# EAGLE library part IO.2 (library supply pins)
I/O Pads Does not include J1 (input) and J2 (output) jack connections
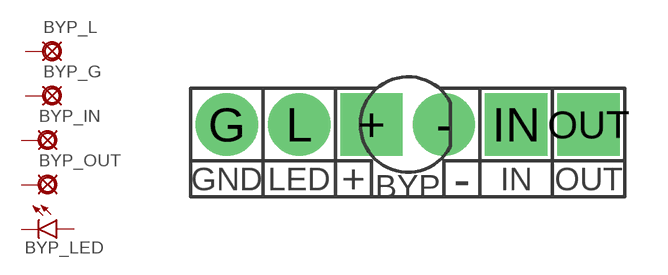
[diagram p1: symbol with the pads of IO.2; footprint IO.2]

Designator prefix BYP_; gates L=PAD G=PAD IN=PAD OUT=PAD LED=LED

## IO.2  [IO.2]
+  LED:+  pas
-  LED:-  pas
G  G:PAD  pas
IN  IN:PAD  pas
L  L:PAD  pas
OUT  OUT:PAD  pas

## Footprint IO.2 (pad centres in mm)
drill 1.2 pad 2.184 square: + -1.27,0; IN 3.81,0; OUT 6.35,0
drill 1.2 pad 2.184: - 1.27,0; G -6.35,0; L -3.81,0